# EAGLE library part 74HC00D,653 (library edrtech_lib)
Quad 2-Input NAND gate Check availability <https://pricing.snapeda.com/parts/74HC00D%2C653/Nexperia%20USA/view-part?ref=eda>
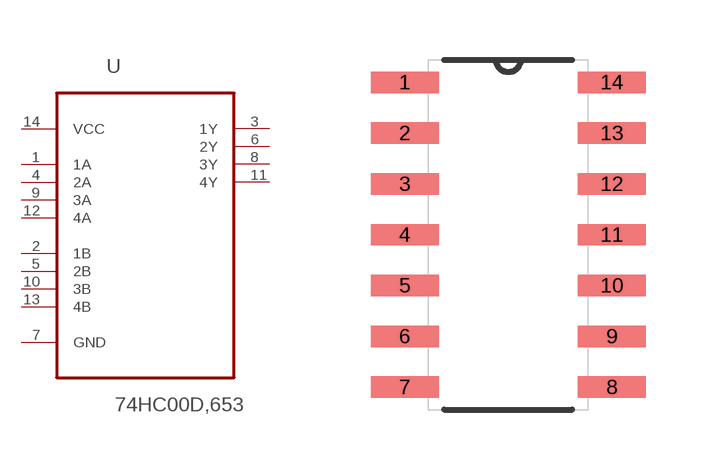
[diagram p8: symbol with the pads of SOIC127P600X175-14N; footprint SOIC127P600X175-14N]

Designator prefix U

## 74HC00D,653 (AVAILABILITY: In Stock; DESCRIPTION: 74HC Series 6 V High-Speed Si-Gate CMOS Quad 2-Input NAND Gate - SOIC-14; MF: Nexperia USA; MP: 74HC00D,653; PACKAGE: SO14-14 Nexperia USA Inc.; PRICE: None; PURCHASE-URL: https://pricing.snapeda.com/search/part/74HC00D,653/?ref=eda)  [SOIC127P600X175-14N]
1  1A  in
2  1B  in
3  1Y  out
4  2A  in
5  2B  in
6  2Y  out
7  GND  pas
8  3Y  out
9  3A  in
10  3B  pas
11  4Y  out
12  4A  in
13  4B  in
14  VCC  pwr

## Footprint SOIC127P600X175-14N (pad centres in mm)
smd 1.702 x 0.533: 1 -2.591,3.81; 2 -2.591,2.54; 3 -2.591,1.27; 4 -2.591,0; 5 -2.591,-1.27; 6 -2.591,-2.54; 7 -2.591,-3.81; 8 2.591,-3.81; 9 2.591,-2.54; 10 2.591,-1.27; 11 2.591,0; 12 2.591,1.27; 13 2.591,2.54; 14 2.591,3.81